# Altium schematic symbol library Diode.SchLib: 13 symbols
Pins are listed as number, name and electrical type; pins without a type are passive.

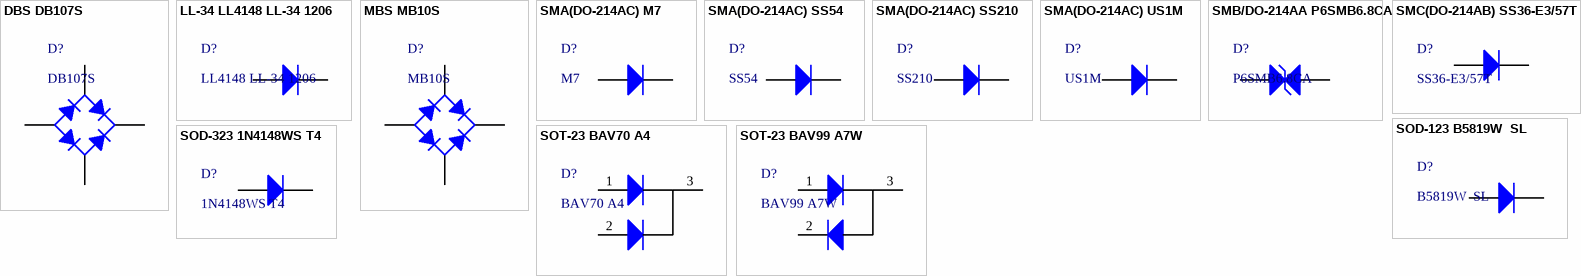
[diagram p0: symbols DBS DB107S to SOT-23 BAV99 A7W]

## DBS DB107S
designator D?, comment DB107S
整流桥; ComponentLink1Description: 供应商链接; ComponentLink1URL: http://www.szlcsc.com/product/details_5809.html; Package: DBS; Supplier: LC; SuppliersPartNumber: C5377
footprint LC-DBS
pins: 1 C, 2 K, 3 C, 4 A

## LL-34 LL4148 LL-34 1206
designator D?, comment LL4148 LL-34 1206
开关二极管; ComponentLink1Description: 供应商链接; ComponentLink1URL: http://www.szlcsc.com/product/details_10338.html; Package: LL-34; Supplier: LC; SuppliersPartNumber: C9808
footprint LC-LL-34
pins: 1 A, 2 K

## MBS MB10S
designator D?, comment MB10S
整流桥; ComponentLink1Description: 供应商链接; ComponentLink1URL: http://www.szlcsc.com/product/details_2865.html; Package: MBS; Supplier: LC; SuppliersPartNumber: C2488
footprint LC-MBS
pins: 1 C, 2 K, 3 C, 4 A

## SMA(DO-214AC) M7
designator D?, comment M7
二极管; ComponentLink1Description: 供应商链接; ComponentLink1URL: http://www.szlcsc.com/product/details_2841.html; Package: SMA(DO-214AC); Supplier: LC; SuppliersPartNumber: C2464
footprint LC-SMA(DO-214AC)_S1
pins: 1 A, 2 K

## SMA(DO-214AC) SS54
designator D?, comment SS54
二极管; ComponentLink1Description: 供应商链接; ComponentLink1URL: http://www.szlcsc.com/product/details_23178.html; Package: SMA(DO-214AC); Supplier: LC; SuppliersPartNumber: C22452
footprint LC-SMA(DO-214AC)_S1
pins: 1 A, 2 K

## SMA(DO-214AC) SS210
designator D?, comment SS210
二极管; ComponentLink1Description: 供应商链接; ComponentLink1URL: http://www.szlcsc.com/product/details_15669.html; Package: SMA(DO-214AC); Supplier: LC; SuppliersPartNumber: C14996
footprint LC-SMA(DO-214AC)_S1
pins: 1 A, 2 K

## SMA(DO-214AC) US1M
designator D?, comment US1M
二极管; ComponentLink1Description: 供应商链接; ComponentLink1URL: http://www.szlcsc.com/product/details_5885.html; Package: SMA(DO-214AC); Supplier: LC; SuppliersPartNumber: C5441
footprint LC-SMA(DO-214AC)_S1
pins: 1 A, 2 K

## SMB/DO-214AA P6SMB6.8CA
designator D?, comment P6SMB6.8CA
TVS; ComponentLink1Description: 供应商链接; ComponentLink1URL: http://www.szlcsc.com/product/details_79530.html; Package: SMB/DO-214AA; Supplier: LC; SuppliersPartNumber: C78395
footprint LC-SMB(DO-214AA)_S1
pins: 1 A, 2 K

## SMC(DO-214AB) SS36-E3/57T
designator D?, comment SS36-E3/57T
二极管; ComponentLink1Description: 供应商链接; ComponentLink1URL: http://www.szlcsc.com/product/details_36698.html; Package: SMC(DO-214AB); Supplier: LC; SuppliersPartNumber: C35722
footprint LC-SMC(DO-214AB)_S1
pins: 1 A, 2 K

## SOD-123 B5819W  SL
designator D?, comment B5819W  SL
肖特基二极管; ComponentLink1Description: 供应商链接; ComponentLink1URL: http://www.szlcsc.com/product/details_9093.html; Package: SOD-123; Supplier: LC; SuppliersPartNumber: C8598
footprint LC-SOD-123
pins: 1 A, 2 K

## SOD-323 1N4148WS T4
designator D?, comment 1N4148WS T4
二极管; ComponentLink1Description: 供应商链接; ComponentLink1URL: http://www.szlcsc.com/product/details_2485.html; Package: SOD-323; Supplier: LC; SuppliersPartNumber: C2128
footprint LC-SOD-323
pins: 1 A, 2 K

## SOT-23 BAV70 A4
designator D?, comment BAV70 A4
开关二极管; ComponentLink1Description: 供应商链接; ComponentLink1URL: http://www.szlcsc.com/product/details_70091.html; Package: SOT-23; Supplier: LC; SuppliersPartNumber: C68978
footprint LC-SOT-23(SOT-23-3)
pins: 1 A, 2 A, 3 K

## SOT-23 BAV99 A7W
designator D?, comment BAV99 A7W
开关二极管; ComponentLink1Description: 供应商链接; ComponentLink1URL: http://www.szlcsc.com/product/details_2877.html; Package: SOT-23; Supplier: LC; SuppliersPartNumber: C2500
footprint LC-SOT-23(SOT-23-3)
pins: 1 A, 2 A, 3 K